# EAGLE library part DF1E-6P (library lib_test)
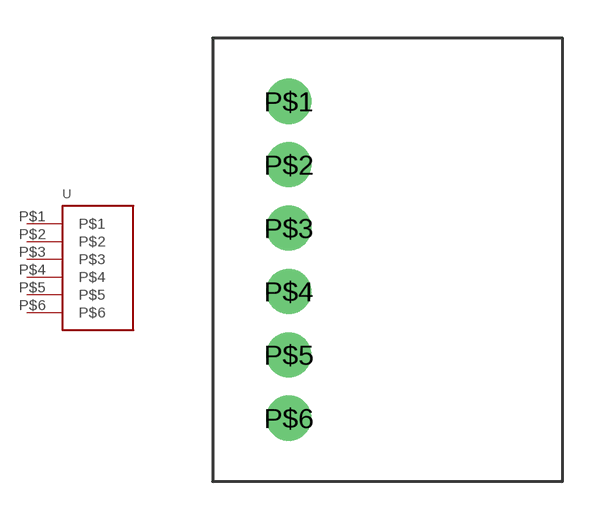
[diagram p2: symbol with the pads of DF1E-6P; footprint DF1E-6P]

Designator prefix -

## DF1E-6P  [DF1E-6P]
P$1  P$1
P$2  P$2
P$3  P$3
P$4  P$4
P$5  P$5
P$6  P$6

## Footprint DF1E-6P (pad centres in mm)
drill 1.1 pad 1.778: P$1 0,6.25; P$2 0,3.75; P$3 0,1.25; P$4 0,-1.25; P$5 0,-3.75; P$6 0,-6.25